# Altium schematic symbol library 74HC MuX.SchLib: 1 symbol
Pins are listed as number, name and electrical type; pins without a type are passive.

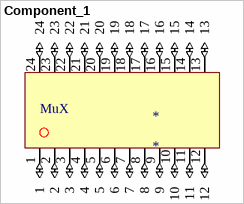
[diagram p0: symbol Component_1]

## Component_1
designator *
footprint PCBComponent_1
pins: 1 (io), 2 (io), 3 (io), 4 (io), 5 (io), 6 (io), 7 (io), 8 (io), 9 (io), 10 (io), 11 (io), 12 (io), 13 (io), 14 (io), 15 (io), 16 (io), 17 (io), 18 (io), 19 (io), 20 (io), 21 (io), 22 (io), 23 (io), 24 (io)
text: MuX